# EAGLE library part AMPHENOL_2X03_2.54MM_SHROUD (library Gucci_ControlBoard)
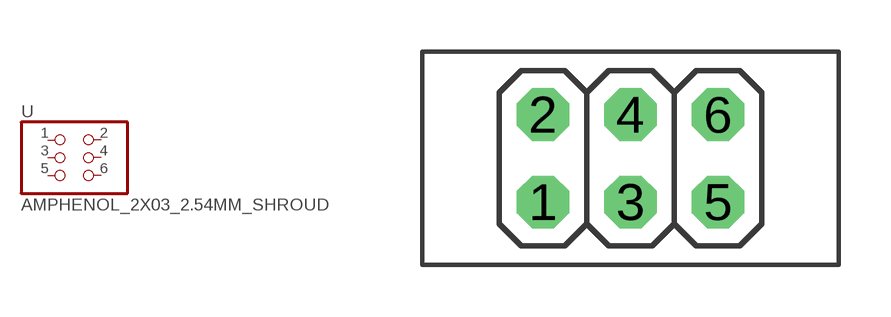
[diagram p6: symbol with the pads of AMPHENOL_2X03_2.54MM_SHROUD; footprint AMPHENOL_2X03_2.54MM_SHROUD]

Designator prefix -

## AMPHENOL_2X03_2.54MM_SHROUD  [AMPHENOL_2X03_2.54MM_SHROUD]
1  1  pas
2  2  pas
3  3  pas
4  4  pas
5  5  pas
6  6  pas

## Footprint AMPHENOL_2X03_2.54MM_SHROUD (pad centres in mm)
PIN HEADER
drill 1.016 octagon: 1 -2.54,-1.27; 2 -2.54,1.27; 3 0,-1.27; 4 0,1.27; 5 2.54,-1.27; 6 2.54,1.27